# EAGLE library part OPA_LMC6464 (library akita)
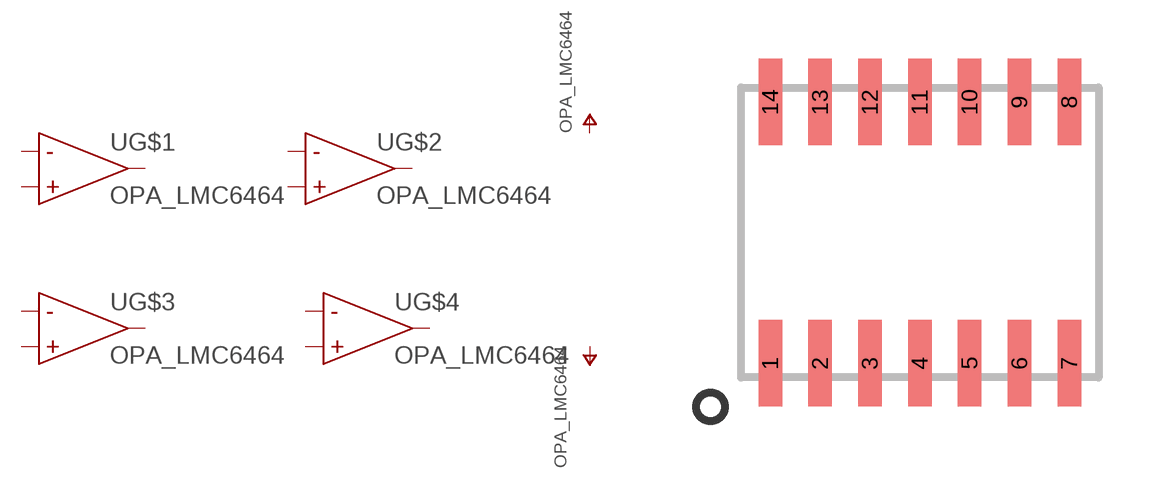
[diagram p104: symbol with the pads of SOIC14; footprint SOIC14]

Designator prefix -; gates G$1=OPA_SGL_NOPOW G$2=OPA_SGL_NOPOW G$3=OPA_SGL_NOPOW G$4=OPA_SGL_NOPOW G$5=POW_V+ G$6=POW_V-

## OPA_LMC6464SO  [SOIC14]
1  G$1:VO
2  G$1:INM
3  G$1:INP
4  G$5:V+  sup
5  G$2:INP
6  G$2:INM
7  G$2:VO
8  G$3:VO
9  G$3:INM
10  G$3:INP
11  G$6:V-  sup
12  G$4:INP
13  G$4:INM
14  G$4:VO

## Footprint SOIC14 (pad centres in mm)
smd 0.6 x 2.2: 1 -3.81,-3.33; 2 -2.54,-3.33; 3 -1.27,-3.33; 4 0,-3.33; 5 1.27,-3.33; 6 2.54,-3.33; 7 3.81,-3.33; 8 3.81,3.33; 9 2.54,3.33; 10 1.27,3.33; 11 0,3.33; 12 -1.27,3.33; 13 -2.54,3.33; 14 -3.81,3.33